# Altium schematic symbol library Transistor_IGBT.SchLib: 2 symbols
Pins are listed as number, name and electrical type; pins without a type are passive.

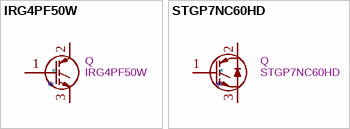
[diagram p0: symbols IRG4PF50W to STGP7NC60HD]

## IRG4PF50W
designator *  value IRG4PF50W  Reference: Q
ki_keywords: N-Channel IGBT Power Transistor; ki_description: 28A, 900V, N-Channel IGBT; ki_fp_filters: TO?247*; Footprint: Package_TO_SOT_THT:TO-247-3_Vertical; Datasheet: http://www.irf.com/product-info/datasheets/data/irg4pf50w.pdf
pins: 1 G, 2 C, 3 E

## STGP7NC60HD
designator *  value STGP7NC60HD  Reference: Q
ki_keywords: N-Channel very fast IGBT with ultrafast diode Power Transistor; ki_description: 25A, 600V, N-Channel IGBT, TO-220; ki_fp_filters: TO?220*; Footprint: Package_TO_SOT_THT:TO-220-3_Vertical; Datasheet: http://www.farnell.com/datasheets/2309889.pdf
pins: 1 G, 2 C, 3 E